# EAGLE library part CAT24C256 (library steves)
256-Kb I2C CMOS Serial EEPROM
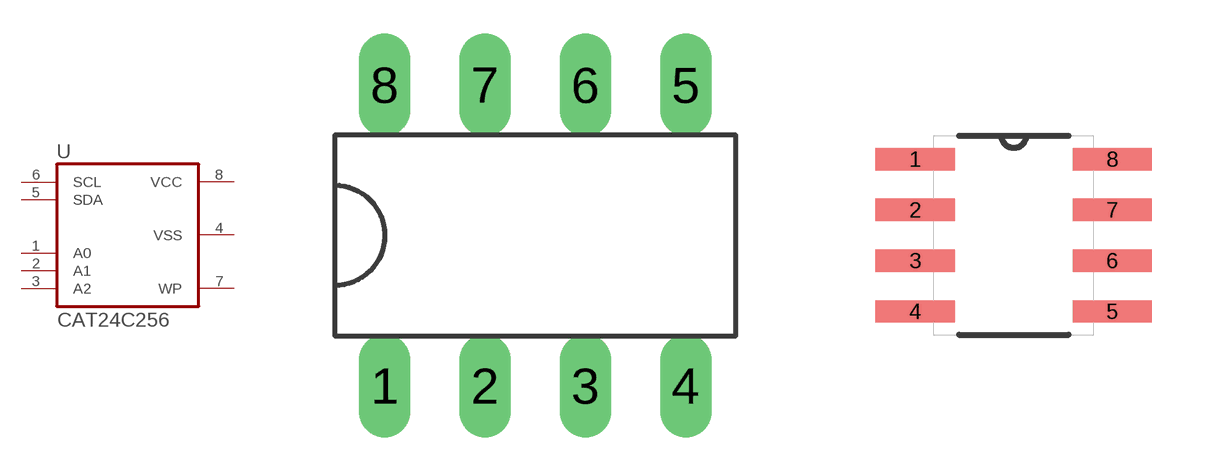
[diagram p31: symbol with the pads of DIL8; footprints DIL8, SOIC8]

Designator prefix -

## CAT24C256DIP-8  [DIL8]
1  A0  in
2  A1  in
3  A2  in
4  VSS  pas
5  SDA
6  SCL  in
7  WP  in
8  VCC  pwr

## CAT24C256SOIC-8  [SOIC8]
Pads as for DIL8

## Footprint DIL8 (pad centres in mm)
Standard 8-pin DIL pad, 0.3 spacing.
drill 0.8 long: 1 0,0; 2 2.54,0; 3 5.08,0; 4 7.62,0; 5 7.62,7.62; 6 5.08,7.62; 7 2.54,7.62; 8 0,7.62

## Footprint SOIC8 (pad centres in mm)
smd 1.981 x 0.559: 1 -2.464,3.175; 2 -2.464,1.905; 3 -2.464,0.635; 4 -2.464,-0.635; 5 2.464,-0.635; 6 2.464,0.635; 7 2.464,1.905; 8 2.464,3.175